# EAGLE library part MS-22D18 (library Seeed-OPL-2017-01-Switch-camilo)
311010004
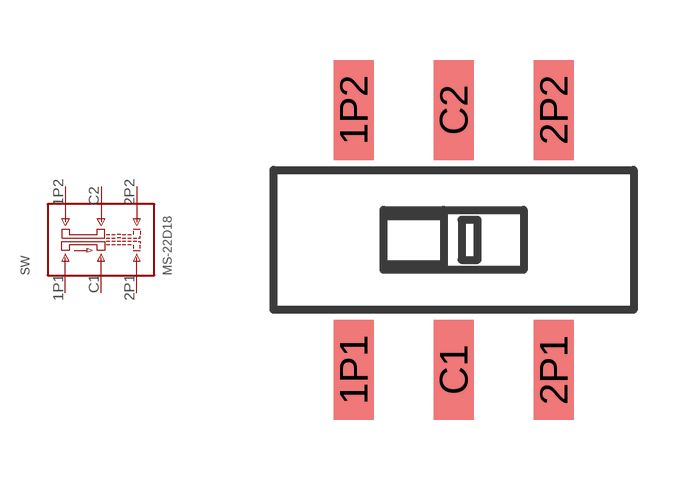
[diagram p0: symbol with the pads of MS-22D18; footprint MS-22D18]

Designator prefix SW

## MS-22D18  [MS-22D18]
1P1  1P1
1P2  1P2
2P1  2P1
2P2  2P2
C1  C1
C2  C2

## Footprint MS-22D18 (pad centres in mm)
smd 1 x 2.5: 1P1 -2.5,-3.25; 1P2 -2.5,3.25; 2P1 2.5,-3.26; 2P2 2.5,3.25; C1 0,-3.25; C2 0,3.25